# EAGLE library part DISP_LCD_CFAF240320K-T-TS (library microbuilder)
Footprint courtesy Morten Hjerde
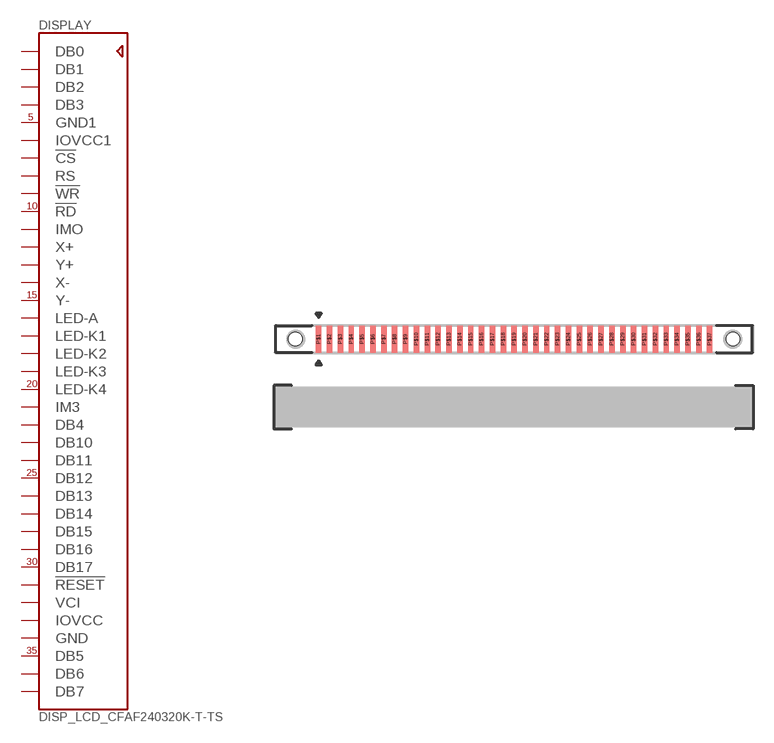
[diagram p63: symbol with the pads of CFAF240320K-T-TS; footprint CFAF240320K-T-TS]

Designator prefix DISPLAY

## DISP_LCD_CFAF240320K-T-TS  [CFAF240320K-T-TS]
P$1  DB0  pas
P$2  DB1  pas
P$3  DB2  pas
P$4  DB3  pas
P$5  GND1  pwr
P$6  IOVCC1  pwr
P$7  !CS  pas
P$8  RS  pas
P$9  !WR  pas
P$10  !RD  pas
P$11  IMO  pas
P$12  X+  pas
P$13  Y+  pas
P$14  X-  pas
P$15  Y-  pas
P$16  LED-A  pas
P$17  LED-K1  pas
P$18  LED-K2  pas
P$19  LED-K3  pas
P$20  LED-K4  pas
P$21  IM3  pas
P$22  DB4  pas
P$23  DB10  pas
P$24  DB11  pas
P$25  DB12  pas
P$26  DB13  pas
P$27  DB14  pas
P$28  DB15  pas
P$29  DB16  pas
P$30  DB17  pas
P$31  !RESET  pas
P$32  VCI  pwr
P$33  IOVCC  pwr
P$34  GND  pwr
P$35  DB5  pas
P$36  DB6  pas
P$37  DB7  pas

## Footprint CFAF240320K-T-TS (pad centres in mm)
smd 0.4 x 2: P$1 0,0; P$2 0.8,0; P$3 1.6,0; P$4 2.4,0; P$5 3.2,0; P$6 4,0; P$7 4.8,0; P$8 5.6,0; P$9 6.4,0; P$10 7.2,0; P$11 8,0; P$12 8.8,0; P$13 9.6,0; P$14 10.4,0; P$15 11.2,0; P$16 12,0; P$17 12.8,0; P$18 13.6,0; P$19 14.4,0; P$20 15.2,0; P$21 16,0; P$22 16.8,0; P$23 17.6,0; P$24 18.4,0; P$25 19.2,0; P$26 20,0; P$27 20.8,0; P$28 21.6,0; P$29 22.4,0; P$30 23.2,0; P$31 24,0; P$32 24.8,0; P$33 25.6,0; P$34 26.4,0; P$35 27.2,0; P$36 28,0; P$37 28.8,0
hole 1 at -1.725,0
hole 1 at 30.53,0